# EAGLE library part 5559ИН13У2 (library transceivers)
АЕЯР.431230.591 ТУ 5559ИН13У2 представляет собой приемопередатчик, предназначенный для построения устройств интерфейса по ГОСТ Р 52070-2003. Производитель: ОАО «НПО «Физика». Технические условия: АЕЯР.431230.591 ТУ
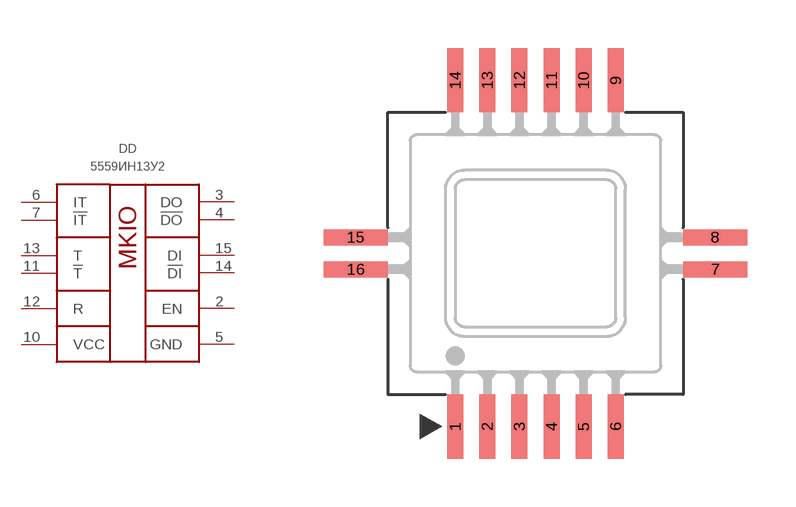
[diagram p1: symbol with the pads of H04.16-2BH; footprint H04.16-2BH]

Designator prefix DD

## 5559ИН13У2  [H04.16-2BH]
2  EN  in
3  DO  out
4  !DO  out
5  GND  pwr
6  IT
7  !IT
10  VCC  pwr
11  !T
12  R  pwr
13  T
14  !DI  in
15  DI  in

## Footprint H04.16-2BH (pad centres in mm)
smd 0.5 x 2: 1 -2.5,-5.4; 2 -1.5,-5.4; 3 -0.5,-5.4; 4 0.5,-5.4; 5 1.5,-5.4; 6 2.5,-5.4; 9 2.5,5.4; 10 1.5,5.4; 11 0.5,5.4; 12 -0.5,5.4; 13 -1.5,5.4; 14 -2.5,5.4
smd 2 x 0.5: 7 5.6,-0.5; 8 5.6,0.5; 15 -5.6,0.5; 16 -5.6,-0.5